# Altium footprint library RE_AXIAL_120x50p178.PcbLib: 1 footprints
Each footprint in its own frame and in the unit in brackets; x right, y up, seen from the top. Pads: shape width x height; smd on the part's side, far side on the other; paste and mask are expansions set on the pad; w line width, h text height; cw(c..) or ccw(c..) is an arc to the next point about the centre after c.
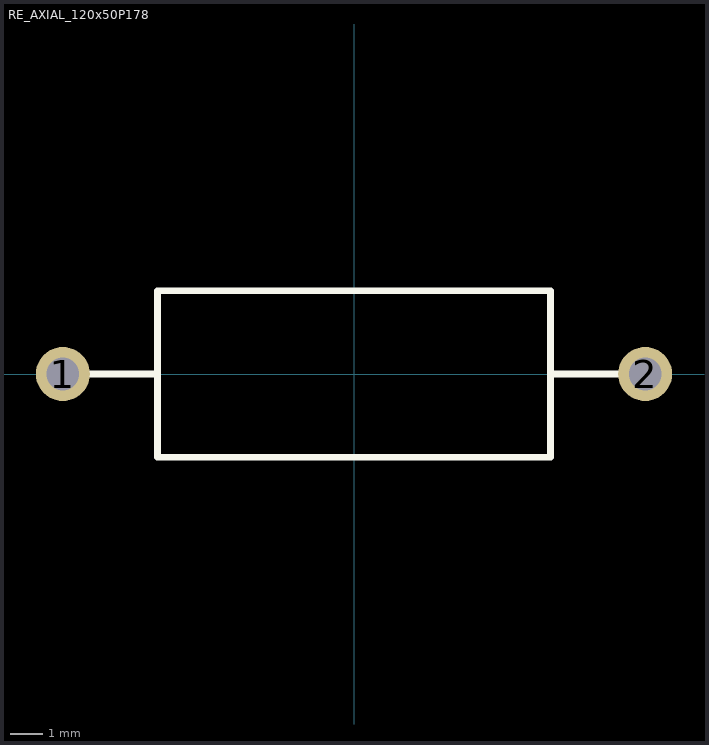
[diagram p0: the footprint, top view; thin cyan lines are the x and y axes]

## RE_AXIAL_120x50P178 [mm] "1W Carbon resistor Multicomp MCF"
height 5
pads (2):
  round 1.65 hole 1: 1(-8.89,0) 2(8.89,0)
Top Overlay:
  lines w0.2: -8.89,0 -6.096,0 ; -6,-2.54 -6,2.54 ; -5.969,-2.54 5.969,-2.54 ; -5.969,2.54 5.969,2.54 ; 6,-2.54 6,2.54 ; 6.096,0 8.89,0